# Altium integrated library Kitagawa Ferrite Bead.IntLib: 5 symbols
Pins are listed as number, name and electrical type; pins without a type are passive.

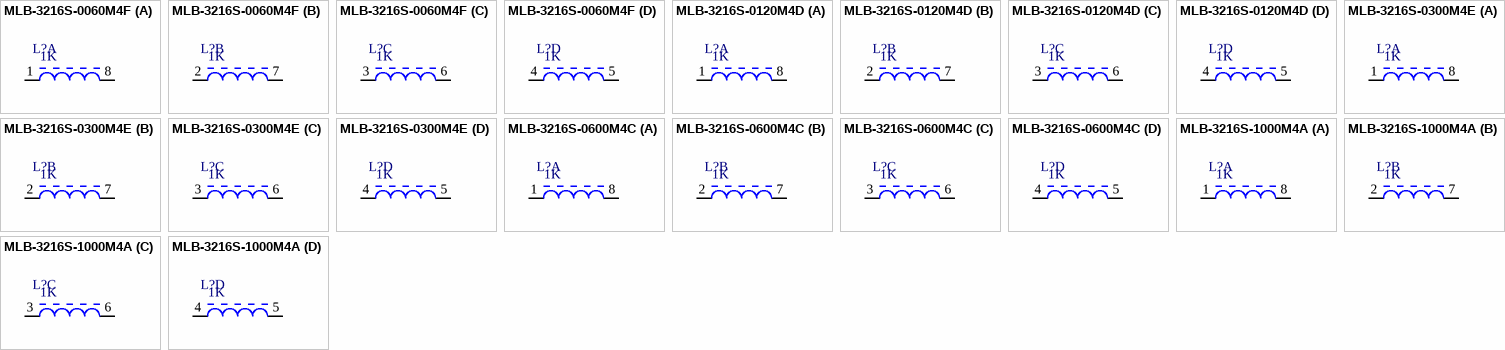
[diagram p0: symbols MLB-3216S-0060M4F to MLB-3216S-1000M4A]

## MLB-3216S-0060M4F
designator L?  value 1K
Ferrite Bead (4x1608 = 3216) SM Chip Array, 8 Leads, 60Ohm, 300mA; PCB_Layout: Complies with manufacturer's recommendation.; Sim Note: Enter the Resistance value into parameter field.; Published: 26-Sep-2008; DatasheetVersion: Mar-2007; PackageVersion: Mar-2007; PackageReference: 321608; Publisher: Altium Limited; PackageDescription: 4-Line Ferrite Bead Chip Array, (1206); SM; 8 Leads; Body 3.2 x 1.5 x 0.8mm (LxWxH typ); ComponentLink1Description: Manufacturer Link; ComponentLink1URL: http://www.kitagawa.de/; ComponentLink2Description: Datasheet; ComponentLink2URL: http://www.kitagawa.de/database/ind/in025027.pdf
footprint 321608 (Chip Ferrite Bead Array, 4-Line; SM; 8 Leads; Body 3.2x1.5mm (LxW typ))
simulation model RESISTOR (Resistor)
part A pins: 1, 8
part B pins: 2, 7
part C pins: 3, 6
part D pins: 4, 5

## MLB-3216S-0120M4D
designator L?  value 1K
Ferrite Bead (4x1608 = 3216) SM Chip Array, 8 Leads, 120Ohm, 150mA; PCB_Layout: Complies with manufacturer's recommendation.; Sim Note: Enter the Resistance value into parameter field.; Published: 26-Sep-2008; DatasheetVersion: Mar-2007; PackageVersion: Mar-2007; PackageReference: 321608; Publisher: Altium Limited; PackageDescription: 4-Line Ferrite Bead Chip Array, (1206); SM; 8 Leads; Body 3.2 x 1.5 x 0.8mm (LxWxH typ); ComponentLink1Description: Manufacturer Link; ComponentLink1URL: http://www.kitagawa.de/; ComponentLink2Description: Datasheet; ComponentLink2URL: http://www.kitagawa.de/database/ind/in025027.pdf
footprint 321608 (Chip Ferrite Bead Array, 4-Line; SM; 8 Leads; Body 3.2x1.5mm (LxW typ))
simulation model RESISTOR (Resistor)
part A pins: 1, 8
part B pins: 2, 7
part C pins: 3, 6
part D pins: 4, 5

## MLB-3216S-0300M4E
designator L?  value 1K
Ferrite Bead (4x1608 = 3216) SM Chip Array, 8 Leads, 300Ohm, 200mA; PCB_Layout: Complies with manufacturer's recommendation.; Sim Note: Enter the Resistance value into parameter field.; Published: 26-Sep-2008; DatasheetVersion: Mar-2007; PackageVersion: Mar-2007; PackageReference: 321608; Publisher: Altium Limited; PackageDescription: 4-Line Ferrite Bead Chip Array, (1206); SM; 8 Leads; Body 3.2 x 1.5 x 0.8mm (LxWxH typ); ComponentLink1Description: Manufacturer Link; ComponentLink1URL: http://www.kitagawa.de/; ComponentLink2Description: Datasheet; ComponentLink2URL: http://www.kitagawa.de/database/ind/in025027.pdf
footprint 321608 (Chip Ferrite Bead Array, 4-Line; SM; 8 Leads; Body 3.2x1.5mm (LxW typ))
simulation model RESISTOR (Resistor)
part A pins: 1, 8
part B pins: 2, 7
part C pins: 3, 6
part D pins: 4, 5

## MLB-3216S-0600M4C
designator L?  value 1K
Ferrite Bead (4x1608 = 3216) SM Chip Array, 8 Leads, 600Ohm, 100mA; PCB_Layout: Complies with manufacturer's recommendation.; Sim Note: Enter the Resistance value into parameter field.; Published: 26-Sep-2008; DatasheetVersion: Mar-2007; PackageVersion: Mar-2007; PackageReference: 321608; Publisher: Altium Limited; PackageDescription: 4-Line Ferrite Bead Chip Array, (1206); SM; 8 Leads; Body 3.2 x 1.5 x 0.8mm (LxWxH typ); ComponentLink1Description: Manufacturer Link; ComponentLink1URL: http://www.kitagawa.de/; ComponentLink2Description: Datasheet; ComponentLink2URL: http://www.kitagawa.de/database/ind/in025027.pdf
footprint 321608 (Chip Ferrite Bead Array, 4-Line; SM; 8 Leads; Body 3.2x1.5mm (LxW typ))
simulation model RESISTOR (Resistor)
part A pins: 1, 8
part B pins: 2, 7
part C pins: 3, 6
part D pins: 4, 5

## MLB-3216S-1000M4A
designator L?  value 1K
Ferrite Bead (4x1608 = 3216) SM Chip Array, 8 Leads, 1000Ohm, 50mA; PCB_Layout: Complies with manufacturer's recommendation.; Sim Note: Enter the Resistance value into parameter field.; Published: 26-Sep-2008; DatasheetVersion: Mar-2007; PackageVersion: Mar-2007; PackageReference: 321608; Publisher: Altium Limited; PackageDescription: 4-Line Ferrite Bead Chip Array, (1206); SM; 8 Leads; Body 3.2 x 1.5 x 0.8mm (LxWxH typ); ComponentLink1Description: Manufacturer Link; ComponentLink1URL: http://www.kitagawa.de/; ComponentLink2Description: Datasheet; ComponentLink2URL: http://www.kitagawa.de/database/ind/in025027.pdf
footprint 321608 (Chip Ferrite Bead Array, 4-Line; SM; 8 Leads; Body 3.2x1.5mm (LxW typ))
simulation model RESISTOR (Resistor)
part A pins: 1, 8
part B pins: 2, 7
part C pins: 3, 6
part D pins: 4, 5